# Altium footprint library yusend_power.PCBLIB: 87 footprints (part 4 of 6)
Each footprint in its own frame and in the unit in brackets; x right, y up, seen from the top. Pads: shape width x height; smd on the part's side, far side on the other; paste and mask are expansions set on the pad; w line width, h text height; cw(c..) or ccw(c..) is an arc to the next point about the centre after c.
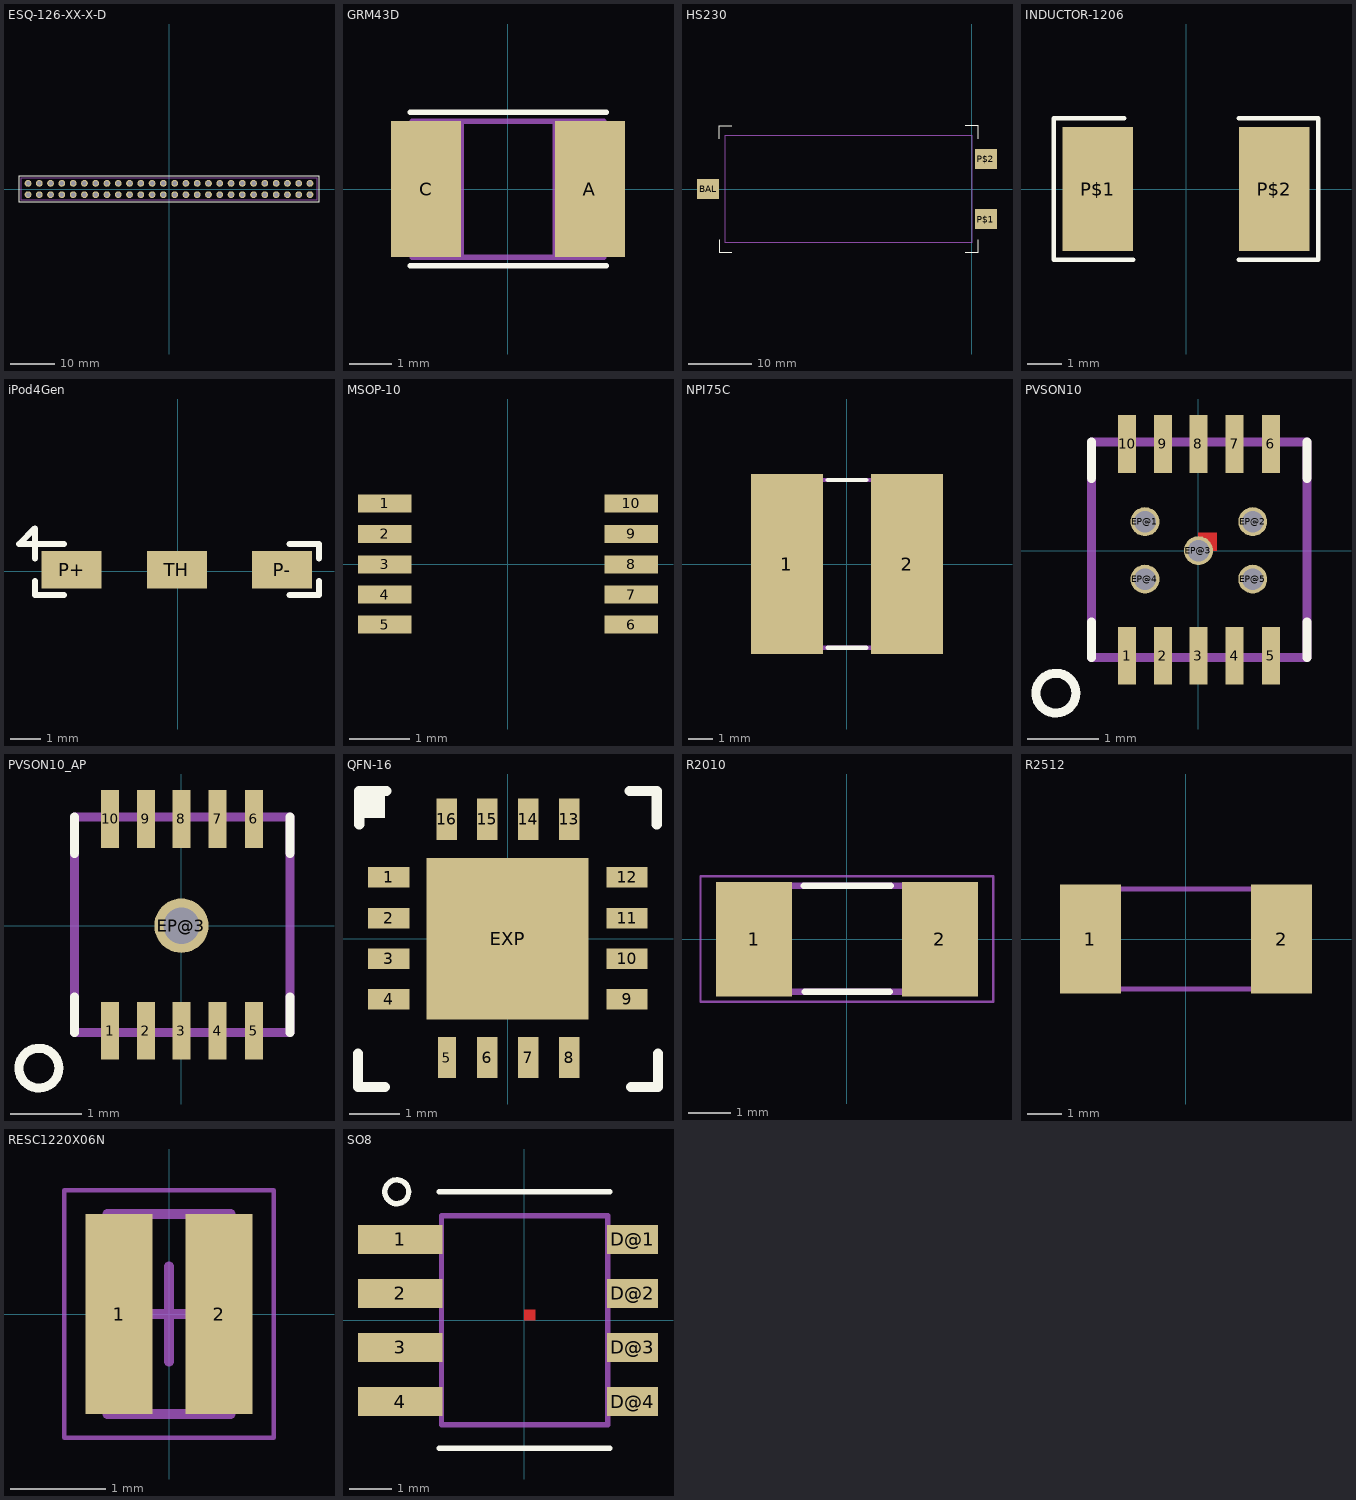
[diagram p3: the footprints below, top view; thin cyan lines are the x and y axes]

## ESQ-126-XX-X-D [mil]
pads (52):
  round 60 hole 40: 1(-1250,-50) 2(-1250,50) 3(-1150,-50) 4(-1150,50) 5(-1050,-50) 6(-1050,50) 7(-950,-50) 8(-950,50) 9(-850,-50) 10(-850,50) 11(-750,-50) 12(-750,50) 13(-650,-50) 14(-650,50) 15(-550,-50) 16(-550,50) 17(-450,-50) 18(-450,50) 19(-350,-50) 20(-350,50) 21(-250,-50) 22(-250,50) 23(-150,-50) 24(-150,50) 25(-50,-50) 26(-50,50) 27(50,-50) 28(50,50) 29(150,-50) 30(150,50) 31(250,-50) 32(250,50) 33(350,-50) 34(350,50) 35(450,-50) 36(450,50) 37(550,-50) 38(550,50) 39(650,-50) 40(650,50) 41(750,-50) 42(750,50) 43(850,-50) 44(850,50) 45(950,-50) 46(950,50) 47(1050,-50) 48(1050,50) 49(1150,-50) 50(1150,50) 51(1250,-50) 52(1250,50)
Top Overlay:
  lines w10: -1330,-117.48 -1330,118 1330,118 1330,-117.48 -1330,-117.48
Mechanical 16:
  lines w10: -1310,-97.48 -1310,98 1310,98 1310,-97.48 -1310,-97.48

## GRM43D [mil]
pads (2):
  rect 65x126 smd: A(76,0) C(-75.87,0)
Top Overlay:
  lines w5: -90.55,-70.87 91,-70.87 ; -90.55,71 91,71
Mechanical 16:
  rectangle: -86.61,-62.99 -43.31,63
  rectangle: 44,-62.99 87,63
  lines w5: -43.31,-62.99 -88.58,-62.99 -88.58,63 -43.31,63 ; -43.31,-62.99 44,-62.99 ; -43.31,-62.99 -43.31,63 ; -43.31,63 44,63 ; 44,-62.99 89,-62.99 89,63 44,63 ; 44,-62.99 44,63

## HS230 [mil]
pads (3):
  rect 138x126 smd: BAL(-1643.7,0) P$1(89,-187.01) P$2(89,188)
Top Overlay:
  lines w5: -1574.8,-314.96 -1574.8,-393.7 -1496.06,-393.7 ; -1574.8,315 -1574.8,394 -1496.06,394 ; -39.37,-393.7 40,-393.7 40,-314.96 ; -39.37,394 40,394 40,315
Top Paste:
  region: 0,0 10,0 10,10 0,10
Mechanical 16:
  lines w5: -1535.43,-334.65 0,-334.65 0,335 -1535.43,335 -1535.43,-334.65

## INDUCTOR-1206 [mil]
pads (2):
  rect 80x140 smd: P$1(-100,0) P$2(100,0)
Top Overlay:
  lines w5: -70,80 -150,80 -150,-80 -60,-80 ; 60,-80 150,-80 150,80 60,80

## iPod4Gen [mm]
pads (3):
  rect 2x1.25 smd: P+(-3.525,0.05) P-(3.475,0.05) TH(-0.025,0.05)
Top Overlay:
  lines w0.2: -4.75,-0.325 -4.75,-0.8 -3.775,-0.8 ; -4.75,0.425 -4.75,1.425 -5.275,0.9 -3.775,0.9 ; 3.725,-0.8 4.7,-0.8 4.7,-0.325 ; 3.725,0.9 4.7,0.9 4.7,0.425

## MSOP-10 [mil]
pads (10):
  rect 35x12 smd: 1(-80.5,40) 2(-80.5,20) 3(-80.5,0) 4(-80.5,-19.68) 5(-80.5,-39.37) 6(81,-39.37) 7(81,-19.68) 8(81,0) 9(81,20) 10(81,40)

## NPI75C [mil]
pads (2):
  rect 119x296 smd: 1(-98.43,0) 2(99,0)
Top Overlay:
  lines w7: -31.5,-137.8 32,-137.8 ; -31.5,138 32,138
Mechanical 16:
  lines w7: -153.54,-137.8 -153.54,138 154,138 154,-137.8 -153.54,-137.8

## PCBComponent_1 [mil]

## PCBComponent_1 - duplicate [mil]

## PVSON10 [mil]
pads (15):
  rect 10x32 smd: 1(-39.37,-58.07) 2(-19.68,-58.07) 3(0,-58.07) 4(20,-58.07) 5(40,-58.07) 6(40,59) 7(20,59) 8(0,59) 9(-19.68,59) 10(-39.37,59)
  round 16 hole 12: EP@1(-29.53,16) EP@2(30,16) EP@3(0,0) EP@4(-29.53,-15.75) EP@5(30,-15.75)
Top Layer:
  region: 0,0 10,0 10,10 0,10
  region: 0,0 10,0 10,10 0,10
  region: 0,0 10,0 10,10 0,10
  region: 0,0 10,0 10,10 0,10
  region: 0,0 10,0 10,10 0,10
Top Overlay:
  circle w5: c-78.74,-78.74 r11
  lines w5: -59.06,-59.06 -59.06,-39.37 ; -59.06,40 -59.06,60 ; 60,-59.06 60,-39.37 ; 60,40 60,60
Top Paste:
  rectangle: 5,5 46,32
  rectangle: -45.67,5 -4.33,32
  rectangle: 5,-31.1 46,-4.33
  rectangle: -45.67,-31.1 -4.33,-4.33
  rectangle: 55,5 75,15
  rectangle: -74.02,5 -54.33,15
  rectangle: -74.02,-14.96 -54.33,-4.72
  rectangle: 55,-14.96 75,-4.72
Top Solder:
  rectangle: 3,3 48,34
  rectangle: -47.64,3 -2.36,34
  rectangle: 3,-33.07 48,-2.36
  rectangle: -47.64,-33.07 -2.36,-2.36
  rectangle: -75.98,3 -52.36,17
  rectangle: -75.98,-16.93 -52.36,-2.76
  rectangle: 53,-16.93 76,-2.76
  rectangle: 53,3 76,17
Mechanical 16:
  lines w5: -59.06,-59.06 60,-59.06 60,60 -59.06,60 -59.06,-59.06

## PVSON10_AP [mil]
pads (11):
  rect 10x32 smd: 1(-39.37,-58.07) 2(-19.68,-58.07) 3(0,-58.07) 4(20,-58.07) 5(40,-58.07) 6(40,59) 7(20,59) 8(0,59) 9(-19.68,59) 10(-39.37,59)
  round 30 hole 20: EP@3(0,0)
Top Layer:
  region: 0,0 10,0 10,10 0,10
  region: 0,0 10,0 10,10 0,10
  region: 0,0 10,0 10,10 0,10
  region: 0,0 10,0 10,10 0,10
  region: 0,0 10,0 10,10 0,10
Top Overlay:
  circle w5: c-78.74,-78.74 r11
  lines w5: -59.06,-59.06 -59.06,-39.37 ; -59.06,40 -59.06,60 ; 60,-59.06 60,-39.37 ; 60,40 60,60
Top Paste:
  rectangle: 5,5 46,32
  rectangle: -45.67,5 -4.33,32
  rectangle: 5,-31.1 46,-4.33
  rectangle: -45.67,-31.1 -4.33,-4.33
  rectangle: 55,5 75,15
  rectangle: -74.02,5 -54.33,15
  rectangle: -74.02,-14.96 -54.33,-4.72
  rectangle: 55,-14.96 75,-4.72
Top Solder:
  rectangle: 3,3 48,34
  rectangle: -47.64,3 -2.36,34
  rectangle: 3,-33.07 48,-2.36
  rectangle: -47.64,-33.07 -2.36,-2.36
  rectangle: -75.98,3 -52.36,17
  rectangle: -75.98,-16.93 -52.36,-2.76
  rectangle: 53,-16.93 76,-2.76
  rectangle: 53,3 76,17
Mechanical 16:
  lines w5: -59.06,-59.06 60,-59.06 60,60 -59.06,60 -59.06,-59.06

## QFN-16 [mil]
pads (17):
  rect 32x16 smd: 1(-92.52,48) 2(-92.52,16) 3(-92.52,-15.75) 4(-92.52,-47.24) 9(93,-47.24) 10(93,-15.75) 11(93,16) 12(93,48)
  rect 14x32 smd: 5(-47.24,-92.52)
  rect 16x32 smd: 6(-15.75,-92.52) 7(16,-92.52) 8(48,-92.52) 13(48,93) 14(16,93) 15(-15.75,93) 16(-47.24,93)
  rect 126x126 smd: EXP(0,0)
Top Overlay:
  rectangle: -112.2,94 -95.47,112
  lines w8: -116.43,-89.43 -116.43,-115.43 -95.43,-115.43 ; -115.43,89 -115.43,115 -94.43,115 ; 95,115 116,115 116,89 ; 96,-115.43 117,-115.43 117,-89.43
Top Paste:
  rectangle: -62.99,-62.99 63,63
Top Solder:
  rectangle: -66.93,-66.93 67,67

## R2010 [mil]
pads (2):
  rect 71x107 smd: 1(-86.61,0) 2(87,0)
Top Overlay:
  lines w6: -40.43,50 41,50 ; -39.45,-49.02 40,-49.02
Mechanical 16:
  rectangle: -98,-52 -64.54,53
  rectangle: 65,-52 99,53
  lines w6: -65.43,50 66,50 ; -64.45,-49.02 67,-49.02
Mechanical 27:
  lines w2: -136.73,-58.39 137,-58.39 137,59 -136.73,59 -136.73,-58.39

## R2512 [mil]
pads (2):
  rect 71x126 smd: 1(-110.24,0) 2(111,0)
Mechanical 16:
  rectangle: 93,-61 127,62
  rectangle: -126,-61 -92.54,62
  lines w6: -92.99,-57.99 94,-57.99 ; -92.99,58 94,58

## RESC1220X06N [mm] "Chip Resistor, 2-Leads, Body 1.20x2.00mm, IPC Medium Density"
height 0.55
pads (2):
  rect 0.7x2.1 smd: 1(-0.525,0) 2(0.525,0)
Mechanical 13:
  lines w0.1: -0.65,-1.05 0.65,-1.05 0.65,1.05 -0.65,1.05 -0.65,-1.05
Mechanical 15:
  lines w0.05: -1.1,-1.3 1.1,-1.3 1.1,1.3 -1.1,1.3 -1.1,-1.3
  lines w0.1: -0.5,0 0.5,0 ; 0,-0.5 0,0.5
3D body: height 0.55, standoff 0, extent 0.3,-1.05 0.65,1.05
3D body: height 0.55, standoff 0, extent -0.65,-1.05 -0.3,1.05
3D body: height 0.55, standoff 0, extent -0.3,-1.05 0.3,1.05

## SO8 [mil]
pads (8):
  rect 78x27 smd: 1(-115,75) 2(-115,25) 3(-115,-25) 4(-115,-75)
  rect 47x27 smd: D@1(100,75) D@2(100,25) D@3(100,-25) D@4(100,-75)
Top Layer:
  region: 0,0 10,0 10,10 0,10
Top Overlay:
  circle w5: c-118.11,119 r11
  lines w5: -78.74,-118.11 79,-118.11 ; -78.74,119 79,119
Mechanical 16:
  lines w5: -76.77,-96.46 -76.77,97 77,97 77,-96.46 -76.77,-96.46